# Altium footprint library Ad_Fpga.PcbLib: 52 footprints (part 3 of 4)
Each footprint in its own frame and in the unit in brackets; x right, y up, seen from the top. Pads: shape width x height; smd on the part's side, far side on the other; paste and mask are expansions set on the pad; w line width, h text height; cw(c..) or ccw(c..) is an arc to the next point about the centre after c.
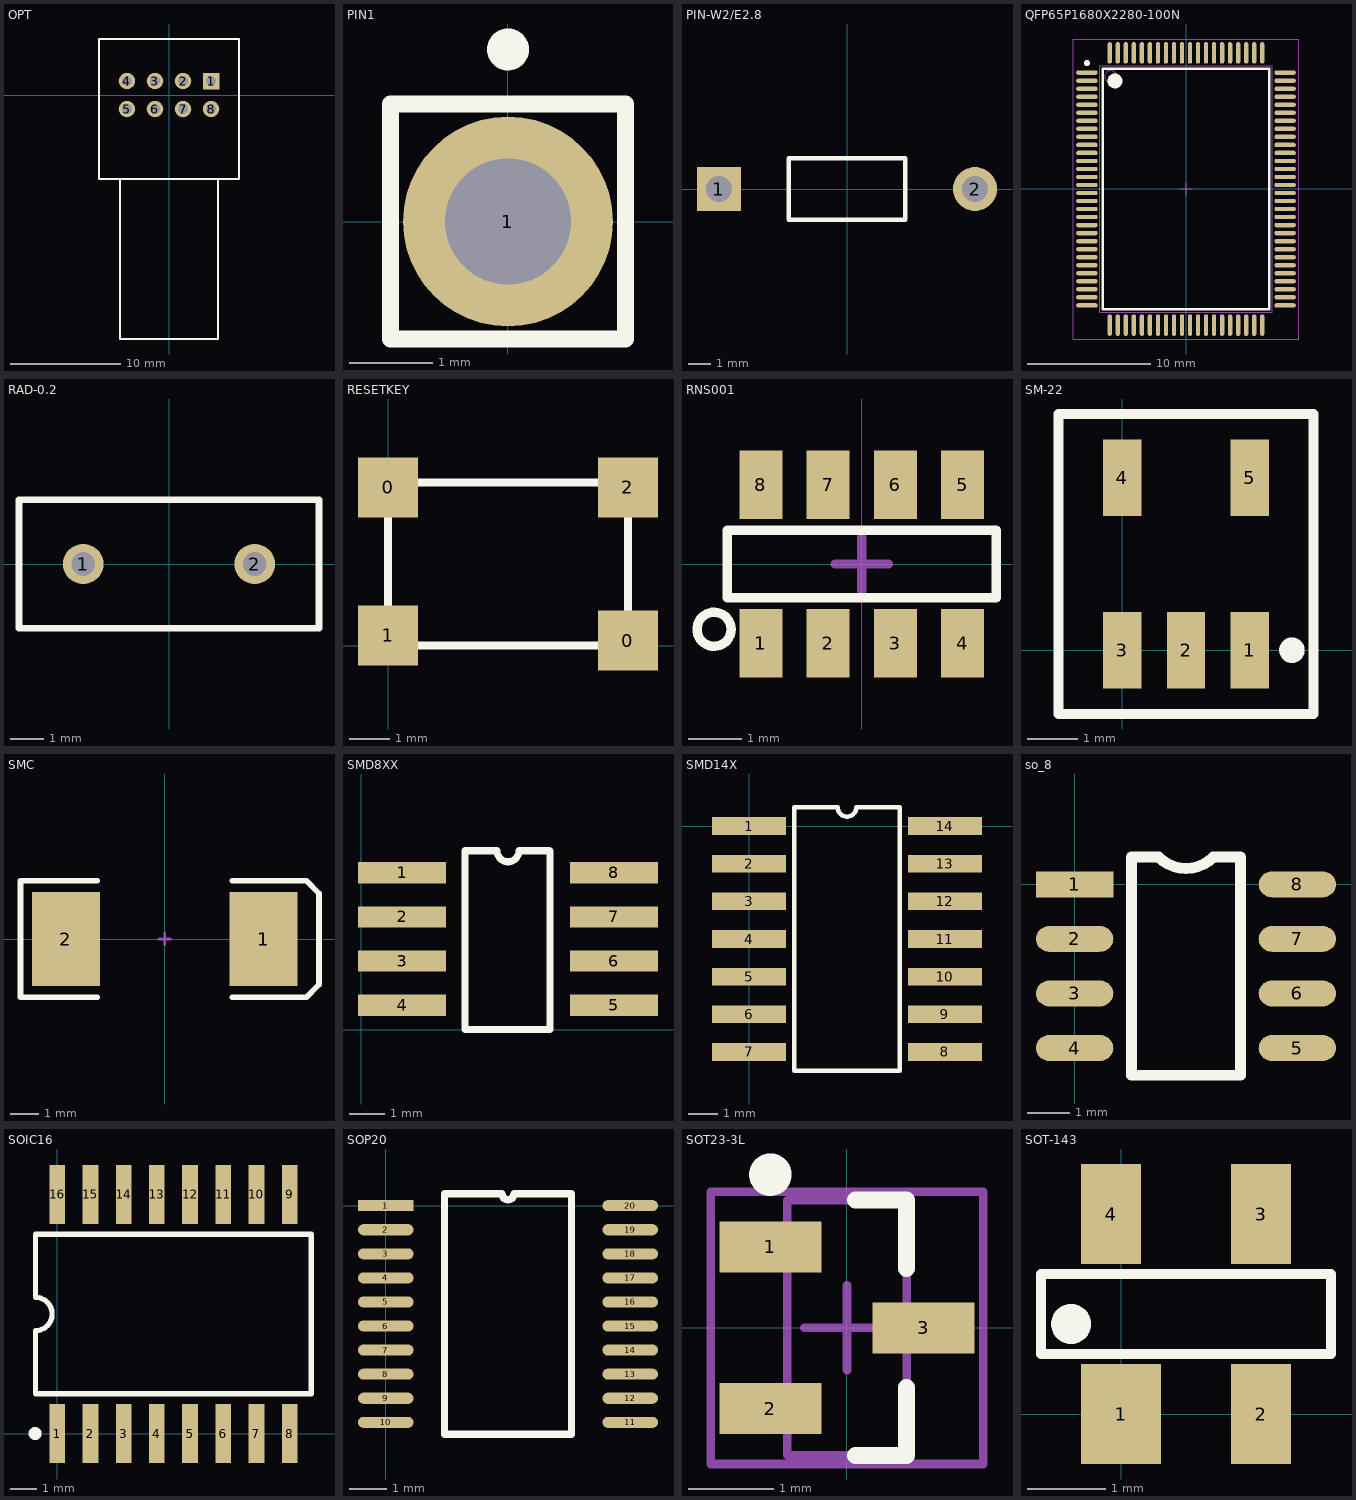
[diagram p2: the footprints below, top view; thin cyan lines are the x and y axes]

## OPT [mm]
height 1.35
pads (8):
  rect 1.5x1.5 hole 0.9: 1(3.81,1.27)
  round 1.5 hole 0.9: 2(1.27,1.27) 3(-1.27,1.27) 4(-3.81,1.27) 5(-3.81,-1.27) 6(-1.27,-1.27) 7(1.27,-1.27) 8(3.81,-1.27)
Top Overlay:
  lines w0.2: -4.445,-7.62 -4.445,-22.12 4.445,-22.12 4.445,-7.62 ; -6.35,-7.62 6.35,-7.62 6.35,5.08 -6.35,5.08 -6.35,-7.62

## PIN1 [mm] "Connector; Plug"
height 4.8
pads (1):
  round 2.5 hole 1.5: 1(0,0)
Top Overlay:
  circle w0.25: c0,2.05 r0.125
  lines w0.2: -1.4,-1.4 -1.4,1.4 1.4,1.4 1.4,-1.4 -1.4,-1.4

## PIN-W2/E2.8 [mm] "Thru-Hole; 2 Leads"
height 4.8
pads (2):
  rect 2x2 hole 1.2: 1(-5.825,0)
  round 2 hole 1.2: 2(5.825,0)
Top Overlay:
  lines w0.2: -2.65,-1.4 2.65,-1.4 2.65,1.4 -2.65,1.4 -2.65,-1.4

## QFP65P1680X2280-100N [mm] "100-Pin Quad Flat Pack Rectangular 0.65 mm Pitch"
height 3.05
pads (100):
  oval 1.75x0.35 smd: 1(-8.025,9.425) 2(-8.025,8.775) 3(-8.025,8.125) 4(-8.025,7.475) 5(-8.025,6.825) 6(-8.025,6.175) 7(-8.025,5.525) 8(-8.025,4.875) 9(-8.025,4.225) 10(-8.025,3.575) 11(-8.025,2.925) 12(-8.025,2.275) 13(-8.025,1.625) 14(-8.025,0.975) 15(-8.025,0.325) 16(-8.025,-0.325) 17(-8.025,-0.975) 18(-8.025,-1.625) 19(-8.025,-2.275) 20(-8.025,-2.925) 21(-8.025,-3.575) 22(-8.025,-4.225) 23(-8.025,-4.875) 24(-8.025,-5.525) 25(-8.025,-6.175) 26(-8.025,-6.825) 27(-8.025,-7.475) 28(-8.025,-8.125) 29(-8.025,-8.775) 30(-8.025,-9.425) 51(8.025,-9.425) 52(8.025,-8.775) 53(8.025,-8.125) 54(8.025,-7.475) 55(8.025,-6.825) 56(8.025,-6.175) 57(8.025,-5.525) 58(8.025,-4.875) 59(8.025,-4.225) 60(8.025,-3.575) 61(8.025,-2.925) 62(8.025,-2.275) 63(8.025,-1.625) 64(8.025,-0.975) 65(8.025,-0.325) 66(8.025,0.325) 67(8.025,0.975) 68(8.025,1.625) 69(8.025,2.275) 70(8.025,2.925) 71(8.025,3.575) 72(8.025,4.225) 73(8.025,4.875) 74(8.025,5.525) 75(8.025,6.175) 76(8.025,6.825) 77(8.025,7.475) 78(8.025,8.125) 79(8.025,8.775) 80(8.025,9.425)
  oval 0.35x1.75 smd: 31(-6.175,-11.025) 32(-5.525,-11.025) 33(-4.875,-11.025) 34(-4.225,-11.025) 35(-3.575,-11.025) 36(-2.925,-11.025) 37(-2.275,-11.025) 38(-1.625,-11.025) 39(-0.975,-11.025) 40(-0.325,-11.025) 41(0.325,-11.025) 42(0.975,-11.025) 43(1.625,-11.025) 44(2.275,-11.025) 45(2.925,-11.025) 46(3.575,-11.025) 47(4.225,-11.025) 48(4.875,-11.025) 49(5.525,-11.025) 50(6.175,-11.025) 81(6.175,11.025) 82(5.525,11.025) 83(4.875,11.025) 84(4.225,11.025) 85(3.575,11.025) 86(2.925,11.025) 87(2.275,11.025) 88(1.625,11.025) 89(0.975,11.025) 90(0.325,11.025) 91(-0.325,11.025) 92(-0.975,11.025) 93(-1.625,11.025) 94(-2.275,11.025) 95(-2.925,11.025) 96(-3.575,11.025) 97(-4.225,11.025) 98(-4.875,11.025) 99(-5.525,11.025) 100(-6.175,11.025)
Top Overlay:
  circle w0.25: c-8.025,10.2 r0.125
  circle w0.6: c-5.75,8.75 r0.3
  lines w0.2: -6.75,-9.75 -6.75,9.75 6.75,9.75 6.75,-9.75 -6.75,-9.75
Mechanical 13:
  circle w0.1: c-6.1,9.1 r0.5
  lines w0.1: -7,-10 -7,10 7,10 7,-10 -7,-10
Mechanical 15:
  lines w0.1: -0.5,0 0.5,0 ; 0,-0.5 0,0.5 ; -9.15,-12.15 -9.15,12.15 9.15,12.15 9.15,-12.15 -9.15,-12.15
3D body: height 3.05, standoff 0, extent -7,-10 7,10

## RAD-0.2 [mm] "Radial Cap, Thru-Hole; 2 Leads; 0.2 in Pin Spacing"
height 4.8
pads (2):
  round 1.2 hole 0.7: 1(-2.54,0) 2(2.54,0)
Top Overlay:
  lines w0.2: -4.445,-1.905 4.445,-1.905 4.445,1.905 -4.445,1.905 -4.445,-1.905

## RESETKEY [mm]
height 2.3
pads (4):
  rect 1.5x1.5 smd: 0(0,3.937) 0(5.969,0.127) 1(0,0.254) 2(5.969,3.937)
Top Overlay:
  lines w0.2: 0,0 0,4.064 5.969,4.064 5.969,0 0,0

## RNS001 [mil]
height 90.55
pads (8):
  rect 32x51 smd: 1(-75,-59) 2(-25,-59) 3(25,-59) 4(75,-59) 5(75,59) 6(25,59) 7(-25,59) 8(-75,59)
Top Overlay:
  circle w7: c-109.84,-48.54 r12.66
  lines w7: -100,-25 -100,25 100,25 100,-25 -100,-25
Mechanical 12:
  lines w7: -19.68,0 19.68,0 ; 0,-19.68 0,19.68

## SM-22 [mil]
height 94.49
pads (5):
  rect 30x60 smd mask+4: 1(100,0) 2(50,0) 3(0,0) 4(0,135.16) 5(100,135.16)
Top Overlay:
  circle w10: c133,0 r5
  lines w7.87: -50,-50 150,-50 150,185 -50,185 -50,-50

## SMC [mm] "DO-214-AB/SMC; 2 C-Bend Leads; Body 7.9 x 5.9 mm, inc. leads (LxW)"
height 2.65
pads (2):
  rect 2.4x3.3 smd: 1(3.475,0) 2(-3.475,0)
Top Overlay:
  lines w0.2: -2.375,-2.05 -5.075,-2.05 -5.075,2.05 -2.375,2.05 ; 2.375,-2.05 4.975,-2.05 5.425,-1.6 5.425,1.6 4.975,2.055 ; 2.375,2.05 4.975,2.05
Mechanical 1:
  lines w0.1: -0.2,0 0.2,0 ; 0,-0.2 0,0.2

## SMD8XX [mm]
height 2.3
pads (8):
  rect 2.5x0.6 smd: 1(1.153,4.448) 2(1.153,3.198) 3(1.153,1.948) 4(1.153,0.698) 5(7.153,0.698) 6(7.153,1.948) 7(7.153,3.198) 8(7.153,4.448)
Top Overlay:
  lines w0.2: 2.931,0.003 5.344,0.003 5.344,5.063 5.334,5.073 4.466,5.073 cw(c4.153,5.073) 3.841,5.073 2.941,5.073 2.931,5.083 2.931,0.003

## SMD14X [mm]
height 3
pads (14):
  rect 2.5x0.6 smd: 1(0,0) 2(0,-1.27) 3(0,-2.54) 4(0,-3.81) 5(0,-5.08) 6(0,-6.35) 7(0,-7.62) 8(6.6,-7.62) 9(6.6,-6.35) 10(6.6,-5.08) 11(6.6,-3.81) 12(6.6,-2.54) 13(6.6,-1.27) 14(6.6,0)
Top Overlay:
  lines w0.15: 2.035,-8.255 4.565,-8.255 ; 2.035,0.635 2.982,0.635 ccw(c3.3,0.635) 3.617,0.635 4.565,0.635
  lines w0.152: 2.035,0.635 1.524,0.635 1.524,-8.255 5.08,-8.255 5.08,0.635 4.565,0.635

## so_8 [mm]
height 3
pads (8):
  rect 1.8x0.6 smd: 1(0,0)
  oval 1.8x0.6 smd: 2(0,-1.27) 3(0,-2.54) 4(0,-3.81) 5(5.188,-3.81) 6(5.188,-2.54) 7(5.188,-1.27) 8(5.188,0)
Top Overlay:
  lines w0.254: 1.324,-4.445 1.324,0.635 1.959,0.635 ccw(c2.594,1.27) 3.229,0.635 3.864,0.635 3.864,-4.445 1.324,-4.445

## SOIC16 [mm]
pads (16):
  rect 0.6x2.25 smd: 1(0,0) 2(1.27,0) 3(2.54,0) 4(3.81,0) 5(5.08,0) 6(6.35,0) 7(7.62,0) 8(8.89,0) 9(8.89,9.15) 10(7.62,9.15) 11(6.35,9.15) 12(5.08,9.15) 13(3.81,9.15) 14(2.54,9.15) 15(1.27,9.15) 16(0,9.15)
Top Overlay:
  circle w0.25: c-0.85,0 r0.125
  lines w0.2: -0.83,1.525 9.72,1.525 9.72,7.625 -0.83,7.625 -0.83,5.21 cw(c-0.83,4.575) -0.83,3.94 -0.83,1.525

## SOP20 [mm]
height 3
pads (20):
  rect 1.5x0.3 smd: 1(0,0)
  oval 1.5x0.3 smd: 2(0,-0.65) 3(0,-1.3) 4(0,-1.95) 5(0,-2.6) 6(0,-3.25) 7(0,-3.9) 8(0,-4.55) 9(0,-5.2) 10(0,-5.85) 11(6.6,-5.85) 12(6.6,-5.2) 13(6.6,-4.55) 14(6.6,-3.9) 15(6.6,-3.25) 16(6.6,-2.6) 17(6.6,-1.95) 18(6.6,-1.3) 19(6.6,-0.65) 20(6.6,0)
Top Overlay:
  lines w0.2: 1.585,-6.175 5.015,-6.175 5.015,0.325 3.462,0.325 cw(c3.3,0.325) 3.137,0.325 1.585,0.325 1.585,-6.175

## SOT23-3L [mm] "SOT23, 3-Leads, Body 2.9x1.3mm, Pitch 0.95mm, Lead Span 2.5mm, IPC High Density"
height 1.1
pads (3):
  rect 1.2x0.6 smd: 1(-0.9,0.95) 2(-0.9,-0.95) 3(0.9,0)
Top Overlay:
  circle w0.25: c-0.9,1.8 r0.125
  lines w0.2: 0.1,-1.5 0.7,-1.5 0.7,-0.7 ; 0.1,1.5 0.7,1.5 0.7,0.7
Mechanical 13:
  lines w0.1: -0.7,-1.5 -0.7,1.5 0.7,1.5 0.7,-1.5 -0.7,-1.5
Mechanical 15:
  lines w0.1: -0.5,0 0.5,0 ; 0,-0.5 0,0.5 ; -1.6,-1.6 -1.6,1.6 1.6,1.6 1.6,-1.6 -1.6,-1.6
3D body: height 1.1, standoff 0, extent -0.7,-1.5 0.7,1.5

## SOT-143 [mil]
height 118.11
pads (4):
  rect 40x50 smd: 1(0,0)
  rect 30x50 smd: 2(70,0) 3(70,100) 4(-5,100)
Top Overlay:
  circle w10: c-25,45 r5
  lines w5: -40,30 -40,70 105,70 105,30 -40,30